# Altium integrated library WE-TPC SMD Shielded Tiny Power Inductor.IntLib: 253 symbols (part 1 of 3)
Pins are listed as number, name and electrical type; pins without a type are passive.

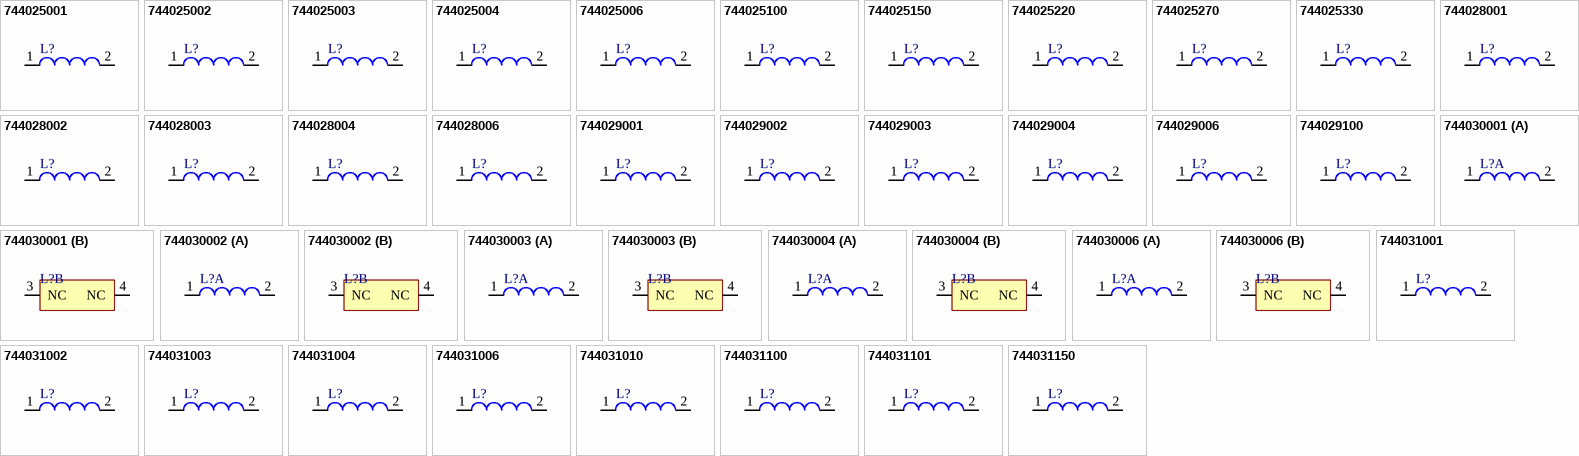
[diagram p0: symbols 744025001 to 744031150]

## 744025001
designator L?
SMD Shielded Tiny Power Inductor WE-TPC, L=1.20 µH; PartNumber: 744025001; Inductance: 1.20 µH; PackageReference: WE-TPC 2828; ComponentLink1Description: Manufacturer URL; ComponentLink1URL: http://www.we-online.com; ComponentLink2Description: Datasheet; ComponentLink2URL: http://www.we-online.de/katalog/media/pdf/744025001.pdf
footprint WE-TPC 2828 (SMD Inductor, 2-Leads, Body 2,8x2,8mm)
pins: 1, 2

## 744025002
designator L?
SMD Shielded Tiny Power Inductor WE-TPC, L=2.20 µH; PartNumber: 744025002; Inductance: 2.20 µH; PackageReference: WE-TPC 2828; ComponentLink1Description: Manufacturer URL; ComponentLink1URL: http://www.we-online.com; ComponentLink2Description: Datasheet; ComponentLink2URL: http://www.we-online.de/katalog/media/pdf/744025002.pdf
footprint WE-TPC 2828 (SMD Inductor, 2-Leads, Body 2,8x2,8mm)
pins: 1, 2

## 744025003
designator L?
SMD Shielded Tiny Power Inductor WE-TPC, L=3.30 µH; PartNumber: 744025003; Inductance: 3.30 µH; PackageReference: WE-TPC 2828; ComponentLink1Description: Manufacturer URL; ComponentLink1URL: http://www.we-online.com; ComponentLink2Description: Datasheet; ComponentLink2URL: http://www.we-online.de/katalog/media/pdf/744025003.pdf
footprint WE-TPC 2828 (SMD Inductor, 2-Leads, Body 2,8x2,8mm)
pins: 1, 2

## 744025004
designator L?
SMD Shielded Tiny Power Inductor WE-TPC, L=4.70 µH; PartNumber: 744025004; Inductance: 4.70 µH; PackageReference: WE-TPC 2828; ComponentLink1Description: Manufacturer URL; ComponentLink1URL: http://www.we-online.com; ComponentLink2Description: Datasheet; ComponentLink2URL: http://www.we-online.de/katalog/media/pdf/744025004.pdf
footprint WE-TPC 2828 (SMD Inductor, 2-Leads, Body 2,8x2,8mm)
pins: 1, 2

## 744025006
designator L?
SMD Shielded Tiny Power Inductor WE-TPC, L=6.80 µH; PartNumber: 744025006; Inductance: 6.80 µH; PackageReference: WE-TPC 2828; ComponentLink1Description: Manufacturer URL; ComponentLink1URL: http://www.we-online.com; ComponentLink2Description: Datasheet; ComponentLink2URL: http://www.we-online.de/katalog/media/pdf/744025006.pdf
footprint WE-TPC 2828 (SMD Inductor, 2-Leads, Body 2,8x2,8mm)
pins: 1, 2

## 744025100
designator L?
SMD Shielded Tiny Power Inductor WE-TPC, L=10.0 µH; PartNumber: 744025100; Inductance: 10.0 µH; PackageReference: WE-TPC 2828; ComponentLink1Description: Manufacturer URL; ComponentLink1URL: http://www.we-online.com; ComponentLink2Description: Datasheet; ComponentLink2URL: http://www.we-online.de/katalog/media/pdf/744025100.pdf
footprint WE-TPC 2828 (SMD Inductor, 2-Leads, Body 2,8x2,8mm)
pins: 1, 2

## 744025150
designator L?
SMD Shielded Tiny Power Inductor WE-TPC, L=15.0 µH; PartNumber: 744025150; Inductance: 15.0 µH; PackageReference: WE-TPC 2828; ComponentLink1Description: Manufacturer URL; ComponentLink1URL: http://www.we-online.com; ComponentLink2Description: Datasheet; ComponentLink2URL: http://www.we-online.de/katalog/media/pdf/744025150.pdf
footprint WE-TPC 2828 (SMD Inductor, 2-Leads, Body 2,8x2,8mm)
pins: 1, 2

## 744025220
designator L?
SMD Shielded Tiny Power Inductor WE-TPC, L=22.0 µH; PartNumber: 744025220; Inductance: 22.0 µH; PackageReference: WE-TPC 2828; ComponentLink1Description: Manufacturer URL; ComponentLink1URL: http://www.we-online.com; ComponentLink2Description: Datasheet; ComponentLink2URL: http://www.we-online.de/katalog/media/pdf/744025220.pdf
footprint WE-TPC 2828 (SMD Inductor, 2-Leads, Body 2,8x2,8mm)
pins: 1, 2

## 744025270
designator L?
SMD Shielded Tiny Power Inductor WE-TPC, L=27.0 µH; PartNumber: 744025270; Inductance: 27.0 µH; PackageReference: WE-TPC 2828; ComponentLink1Description: Manufacturer URL; ComponentLink1URL: http://www.we-online.com; ComponentLink2Description: Datasheet; ComponentLink2URL: http://www.we-online.de/katalog/media/pdf/744025270.pdf
footprint WE-TPC 2828 (SMD Inductor, 2-Leads, Body 2,8x2,8mm)
pins: 1, 2

## 744025330
designator L?
SMD Shielded Tiny Power Inductor WE-TPC, L=33.0 µH; PartNumber: 744025330; Inductance: 33.0 µH; PackageReference: WE-TPC 2828; ComponentLink1Description: Manufacturer URL; ComponentLink1URL: http://www.we-online.com; ComponentLink2Description: Datasheet; ComponentLink2URL: http://www.we-online.de/katalog/media/pdf/744025330.pdf
footprint WE-TPC 2828 (SMD Inductor, 2-Leads, Body 2,8x2,8mm)
pins: 1, 2

## 744028001
designator L?
SMD Shielded Tiny Power Inductor WE-TPC, L = 1.00 µH; PartNumber: 744028001; Inductance: 1.00 µH; DatasheetVersion: ver 3, Oct-2010; PackageReference: WE-TPC-2811-T; PackageDescription: SMD Inductor, 2-Leads, Body 2.8 x 2.8 mm; ComponentLink1Description: Manufacturer URL; ComponentLink1URL: http://www.we-online.com; ComponentLink2Description: Datasheet; ComponentLink2URL: http://www.we-online.de/katalog/media/pdf/744028001.pdf
footprint WE-TPC-2811-T (SMD Inductor, 2-Leads, Body 2.8x2.8x1.2 mm)
pins: 1, 2

## 744028002
designator L?
SMD Shielded Tiny Power Inductor WE-TPC, L = 2.20 µH; PartNumber: 744028002; Inductance: 2.20 µH; DatasheetVersion: ver 3, Oct-2010; PackageReference: WE-TPC-2811-T; PackageDescription: SMD Inductor, 2-Leads, Body 2.8 x 2.8 mm; ComponentLink1Description: Manufacturer URL; ComponentLink1URL: http://www.we-online.com; ComponentLink2Description: Datasheet; ComponentLink2URL: http://www.we-online.de/katalog/media/pdf/744028002.pdf
footprint WE-TPC-2811-T (SMD Inductor, 2-Leads, Body 2.8x2.8x1.2 mm)
pins: 1, 2

## 744028003
designator L?
SMD Shielded Tiny Power Inductor WE-TPC, L = 3.30 µH; PartNumber: 744028003; Inductance: 3.30 µH; DatasheetVersion: ver 3, Oct-2010; PackageReference: WE-TPC-2811-T; PackageDescription: SMD Inductor, 2-Leads, Body 2.8 x 2.8 mm; ComponentLink1Description: Manufacturer URL; ComponentLink1URL: http://www.we-online.com; ComponentLink2Description: Datasheet; ComponentLink2URL: http://www.we-online.de/katalog/media/pdf/744028003.pdf
footprint WE-TPC-2811-T (SMD Inductor, 2-Leads, Body 2.8x2.8x1.2 mm)
pins: 1, 2

## 744028004
designator L?
SMD Shielded Tiny Power Inductor WE-TPC, L = 4.70 µH; PartNumber: 744028004; Inductance: 4.70 µH; DatasheetVersion: ver 3, Oct-2010; PackageReference: WE-TPC-2811-T; PackageDescription: SMD Inductor, 2-Leads, Body 2.8 x 2.8 mm; ComponentLink1Description: Manufacturer URL; ComponentLink1URL: http://www.we-online.com; ComponentLink2Description: Datasheet; ComponentLink2URL: http://www.we-online.de/katalog/media/pdf/744028004.pdf
footprint WE-TPC-2811-T (SMD Inductor, 2-Leads, Body 2.8x2.8x1.2 mm)
pins: 1, 2

## 744028006
designator L?
SMD Shielded Tiny Power Inductor WE-TPC, L = 6.80 µH; PartNumber: 744028006; Inductance: 6.80 µH; DatasheetVersion: ver 3, Oct-2010; PackageReference: WE-TPC-2811-T; PackageDescription: SMD Inductor, 2-Leads, Body 2.8 x 2.8 mm; ComponentLink1Description: Manufacturer URL; ComponentLink1URL: http://www.we-online.com; ComponentLink2Description: Datasheet; ComponentLink2URL: http://www.we-online.de/katalog/media/pdf/744028006.pdf
footprint WE-TPC-2811-T (SMD Inductor, 2-Leads, Body 2.8x2.8x1.2 mm)
pins: 1, 2

## 744029001
designator L?
SMD Shielded Tiny Power Inductor WE-TPC, L = 1.00 µH; PartNumber: 744029001; Inductance: 1.00 µH; DatasheetVersion: ver 3, Oct-2010; PackageReference: WE-TPC-2813-TH; PackageDescription: SMD Inductor, 2-Leads, Body 2.8 x 2.8 mm; ComponentLink1Description: Manufacturer URL; ComponentLink1URL: http://www.we-online.com; ComponentLink2Description: Datasheet; ComponentLink2URL: http://www.we-online.de/katalog/media/pdf/744029001.pdf
footprint WE-TPC-2813-TH (SMD Inductor, 2-Leads, Body 2.8x2.8x1.5 mm)
pins: 1, 2

## 744029002
designator L?
SMD Shielded Tiny Power Inductor WE-TPC, L = 2.20 µH; PartNumber: 744029002; Inductance: 2.20 µH; DatasheetVersion: ver 3, Oct-2010; PackageReference: WE-TPC-2813-TH; PackageDescription: SMD Inductor, 2-Leads, Body 2.8 x 2.8 mm; ComponentLink1Description: Manufacturer URL; ComponentLink1URL: http://www.we-online.com; ComponentLink2Description: Datasheet; ComponentLink2URL: http://www.we-online.de/katalog/media/pdf/744029002.pdf
footprint WE-TPC-2813-TH (SMD Inductor, 2-Leads, Body 2.8x2.8x1.5 mm)
pins: 1, 2

## 744029003
designator L?
SMD Shielded Tiny Power Inductor WE-TPC, L = 3.30 µH; PartNumber: 744029003; Inductance: 3.30 µH; DatasheetVersion: ver 3, Oct-2010; PackageReference: WE-TPC-2813-TH; PackageDescription: SMD Inductor, 2-Leads, Body 2.8 x 2.8 mm; ComponentLink1Description: Manufacturer URL; ComponentLink1URL: http://www.we-online.com; ComponentLink2Description: Datasheet; ComponentLink2URL: http://www.we-online.de/katalog/media/pdf/744029003.pdf
footprint WE-TPC-2813-TH (SMD Inductor, 2-Leads, Body 2.8x2.8x1.5 mm)
pins: 1, 2

## 744029004
designator L?
SMD Shielded Tiny Power Inductor WE-TPC, L = 4.70 µH; PartNumber: 744029004; Inductance: 4.70 µH; DatasheetVersion: ver 3, Oct-2010; PackageReference: WE-TPC-2813-TH; PackageDescription: SMD Inductor, 2-Leads, Body 2.8 x 2.8 mm; ComponentLink1Description: Manufacturer URL; ComponentLink1URL: http://www.we-online.com; ComponentLink2Description: Datasheet; ComponentLink2URL: http://www.we-online.de/katalog/media/pdf/744029004.pdf
footprint WE-TPC-2813-TH (SMD Inductor, 2-Leads, Body 2.8x2.8x1.5 mm)
pins: 1, 2

## 744029006
designator L?
SMD Shielded Tiny Power Inductor WE-TPC, L = 6.80 µH; PartNumber: 744029006; Inductance: 6.80 µH; DatasheetVersion: ver 3, Oct-2010; PackageReference: WE-TPC-2813-TH; PackageDescription: SMD Inductor, 2-Leads, Body 2.8 x 2.8 mm; ComponentLink1Description: Manufacturer URL; ComponentLink1URL: http://www.we-online.com; ComponentLink2Description: Datasheet; ComponentLink2URL: http://www.we-online.de/katalog/media/pdf/744029006.pdf
footprint WE-TPC-2813-TH (SMD Inductor, 2-Leads, Body 2.8x2.8x1.5 mm)
pins: 1, 2

## 744029100
designator L?
SMD Shielded Tiny Power Inductor WE-TPC, L = 10.0 µH; PartNumber: 744029100; Inductance: 10.0 µH; DatasheetVersion: ver 3, Oct-2010; PackageReference: WE-TPC-2813-TH; PackageDescription: SMD Inductor, 2-Leads, Body 2.8 x 2.8 mm; ComponentLink1Description: Manufacturer URL; ComponentLink1URL: http://www.we-online.com; ComponentLink2Description: Datasheet; ComponentLink2URL: http://www.we-online.de/katalog/media/pdf/744029100.pdf
footprint WE-TPC-2813-TH (SMD Inductor, 2-Leads, Body 2.8x2.8x1.5 mm)
pins: 1, 2

## 744030001
designator L?
SMD Shielded Tiny Power Inductor WE-TPC, L = 1.20 µH; PartNumber: 744030001; Inductance: 1.20 µH; DatasheetVersion: ver 6, Jun-2009; PackageReference: WE-TPC-3510-XS; PackageDescription: SMD Inductor, 2-Leads, Body 3.3 x 3.5 mm; ComponentLink1Description: Manufacturer URL; ComponentLink1URL: http://www.we-online.com; ComponentLink2Description: Datasheet; ComponentLink2URL: http://www.we-online.de/katalog/media/pdf/744030001.pdf
footprint WE-TPC-3510-XS (SMD Inductor, 2-Leads, Body 3.3x3.5x1.05 mm)
part A pins: 1, 2
part B pins: 3 NC, 4 NC

## 744030002
designator L?
SMD Shielded Tiny Power Inductor WE-TPC, L = 2.20 µH; PartNumber: 744030002; Inductance: 2.20 µH; DatasheetVersion: ver 6, Jun-2009; PackageReference: WE-TPC-3510-XS; PackageDescription: SMD Inductor, 2-Leads, Body 3.3 x 3.5 mm; ComponentLink1Description: Manufacturer URL; ComponentLink1URL: http://www.we-online.com; ComponentLink2Description: Datasheet; ComponentLink2URL: http://www.we-online.de/katalog/media/pdf/744030002.pdf
footprint WE-TPC-3510-XS (SMD Inductor, 2-Leads, Body 3.3x3.5x1.05 mm)
part A pins: 1, 2
part B pins: 3 NC, 4 NC

## 744030003
designator L?
SMD Shielded Tiny Power Inductor WE-TPC, L = 3.30 µH; PartNumber: 744030003; Inductance: 3.30 µH; DatasheetVersion: ver 6, Jun-2009; PackageReference: WE-TPC-3510-XS; PackageDescription: SMD Inductor, 2-Leads, Body 3.3 x 3.5 mm; ComponentLink1Description: Manufacturer URL; ComponentLink1URL: http://www.we-online.com; ComponentLink2Description: Datasheet; ComponentLink2URL: http://www.we-online.de/katalog/media/pdf/744030003.pdf
footprint WE-TPC-3510-XS (SMD Inductor, 2-Leads, Body 3.3x3.5x1.05 mm)
part A pins: 1, 2
part B pins: 3 NC, 4 NC

## 744030004
designator L?
SMD Shielded Tiny Power Inductor WE-TPC, L = 4.70 µH; PartNumber: 744030004; Inductance: 4.70 µH; DatasheetVersion: ver 6, Jun-2009; PackageReference: WE-TPC-3510-XS; PackageDescription: SMD Inductor, 2-Leads, Body 3.3 x 3.5 mm; ComponentLink1Description: Manufacturer URL; ComponentLink1URL: http://www.we-online.com; ComponentLink2Description: Datasheet; ComponentLink2URL: http://www.we-online.de/katalog/media/pdf/744030004.pdf
footprint WE-TPC-3510-XS (SMD Inductor, 2-Leads, Body 3.3x3.5x1.05 mm)
part A pins: 1, 2
part B pins: 3 NC, 4 NC

## 744030006
designator L?
SMD Shielded Tiny Power Inductor WE-TPC, L = 6.80 µH; PartNumber: 744030006; Inductance: 6.80 µH; DatasheetVersion: ver 6, Jun-2009; PackageReference: WE-TPC-3510-XS; PackageDescription: SMD Inductor, 2-Leads, Body 3.3 x 3.5 mm; ComponentLink1Description: Manufacturer URL; ComponentLink1URL: http://www.we-online.com; ComponentLink2Description: Datasheet; ComponentLink2URL: http://www.we-online.de/katalog/media/pdf/744030006.pdf
footprint WE-TPC-3510-XS (SMD Inductor, 2-Leads, Body 3.3x3.5x1.05 mm)
part A pins: 1, 2
part B pins: 3 NC, 4 NC

## 744031001
designator L?
SMD Shielded Tiny Power Inductor WE-TPC, L = 1.50 µH; PartNumber: 744031001; Inductance: 1.50 µH; DatasheetVersion: ver 6, Jan-2009; PackageReference: WE-TPC-3816-S; PackageDescription: SMD Inductor, 2-Leads, Body 3.8 x 3.8 mm; ComponentLink1Description: Manufacturer URL; ComponentLink1URL: http://www.we-online.com; ComponentLink2Description: Datasheet; ComponentLink2URL: http://www.we-online.de/katalog/media/pdf/744031001.pdf
footprint WE-TPC-3816-S (SMD Inductor, 2-Leads, Body 3.8x3.8x1.8 mm)
pins: 1, 2

## 744031002
designator L?
SMD Shielded Tiny Power Inductor WE-TPC, L = 2.50 µH; PartNumber: 744031002; Inductance: 2.50 µH; DatasheetVersion: ver 6, Jan-2009; PackageReference: WE-TPC-3816-S; PackageDescription: SMD Inductor, 2-Leads, Body 3.8 x 3.8 mm; ComponentLink1Description: Manufacturer URL; ComponentLink1URL: http://www.we-online.com; ComponentLink2Description: Datasheet; ComponentLink2URL: http://www.we-online.de/katalog/media/pdf/744031002.pdf
footprint WE-TPC-3816-S (SMD Inductor, 2-Leads, Body 3.8x3.8x1.8 mm)
pins: 1, 2

## 744031003
designator L?
SMD Shielded Tiny Power Inductor WE-TPC, L = 3.60 µH; PartNumber: 744031003; Inductance: 3.60 µH; DatasheetVersion: ver 6, Jan-2009; PackageReference: WE-TPC-3816-S; PackageDescription: SMD Inductor, 2-Leads, Body 3.8 x 3.8 mm; ComponentLink1Description: Manufacturer URL; ComponentLink1URL: http://www.we-online.com; ComponentLink2Description: Datasheet; ComponentLink2URL: http://www.we-online.de/katalog/media/pdf/744031003.pdf
footprint WE-TPC-3816-S (SMD Inductor, 2-Leads, Body 3.8x3.8x1.8 mm)
pins: 1, 2

## 744031004
designator L?
SMD Shielded Tiny Power Inductor WE-TPC, L = 4.70 µH; PartNumber: 744031004; Inductance: 4.70 µH; DatasheetVersion: ver 6, Jan-2009; PackageReference: WE-TPC-3816-S; PackageDescription: SMD Inductor, 2-Leads, Body 3.8 x 3.8 mm; ComponentLink1Description: Manufacturer URL; ComponentLink1URL: http://www.we-online.com; ComponentLink2Description: Datasheet; ComponentLink2URL: http://www.we-online.de/katalog/media/pdf/744031004.pdf
footprint WE-TPC-3816-S (SMD Inductor, 2-Leads, Body 3.8x3.8x1.8 mm)
pins: 1, 2

## 744031006
designator L?
SMD Shielded Tiny Power Inductor WE-TPC, L = 6.80 µH; PartNumber: 744031006; Inductance: 6.80 µH; DatasheetVersion: ver 6, Jan-2009; PackageReference: WE-TPC-3816-S; PackageDescription: SMD Inductor, 2-Leads, Body 3.8 x 3.8 mm; ComponentLink1Description: Manufacturer URL; ComponentLink1URL: http://www.we-online.com; ComponentLink2Description: Datasheet; ComponentLink2URL: http://www.we-online.de/katalog/media/pdf/744031006.pdf
footprint WE-TPC-3816-S (SMD Inductor, 2-Leads, Body 3.8x3.8x1.8 mm)
pins: 1, 2

## 744031010
designator L?
SMD Shielded Tiny Power Inductor WE-TPC, L=1.00 µH; PartNumber: 744031010; Inductance: 1.00 µH; PackageReference: WE-TPC-3816-S; PackageDescription: SMD Inductor, 2-Leads, Body 3.8 x 3.8 mm; ComponentLink1Description: Manufacturer URL; ComponentLink1URL: http://www.we-online.com; ComponentLink2Description: Datasheet; ComponentLink2URL: http://www.we-online.de/katalog/media/pdf/744031010.pdf
footprint WE-TPC-3816-S (SMD Inductor, 2-Leads, Body 3.8x3.8x1.8 mm)
pins: 1, 2

## 744031100
designator L?
SMD Shielded Tiny Power Inductor WE-TPC, L = 10.0 µH; PartNumber: 744031100; Inductance: 10.0 µH; DatasheetVersion: ver 6, Jan-2009; PackageReference: WE-TPC-3816-S; PackageDescription: SMD Inductor, 2-Leads, Body 3.8 x 3.8 mm; ComponentLink1Description: Manufacturer URL; ComponentLink1URL: http://www.we-online.com; ComponentLink2Description: Datasheet; ComponentLink2URL: http://www.we-online.de/katalog/media/pdf/744031100.pdf
footprint WE-TPC-3816-S (SMD Inductor, 2-Leads, Body 3.8x3.8x1.8 mm)
pins: 1, 2

## 744031101
designator L?
SMD Shielded Tiny Power Inductor WE-TPC, L = 100 µH; PartNumber: 744031101; Inductance: 100 µH; DatasheetVersion: ver 6, Jan-2009; PackageReference: WE-TPC-3816-S; PackageDescription: SMD Inductor, 2-Leads, Body 3.8 x 3.8 mm; ComponentLink1Description: Manufacturer URL; ComponentLink1URL: http://www.we-online.com; ComponentLink2Description: Datasheet; ComponentLink2URL: http://www.we-online.de/katalog/media/pdf/744031101.pdf
footprint WE-TPC-3816-S (SMD Inductor, 2-Leads, Body 3.8x3.8x1.8 mm)
pins: 1, 2

## 744031150
designator L?
SMD Shielded Tiny Power Inductor WE-TPC, L = 15.0 µH; PartNumber: 744031150; Inductance: 15.0 µH; DatasheetVersion: ver 6, Jan-2009; PackageReference: WE-TPC-3816-S; PackageDescription: SMD Inductor, 2-Leads, Body 3.8 x 3.8 mm; ComponentLink1Description: Manufacturer URL; ComponentLink1URL: http://www.we-online.com; ComponentLink2Description: Datasheet; ComponentLink2URL: http://www.we-online.de/katalog/media/pdf/744031150.pdf
footprint WE-TPC-3816-S (SMD Inductor, 2-Leads, Body 3.8x3.8x1.8 mm)
pins: 1, 2

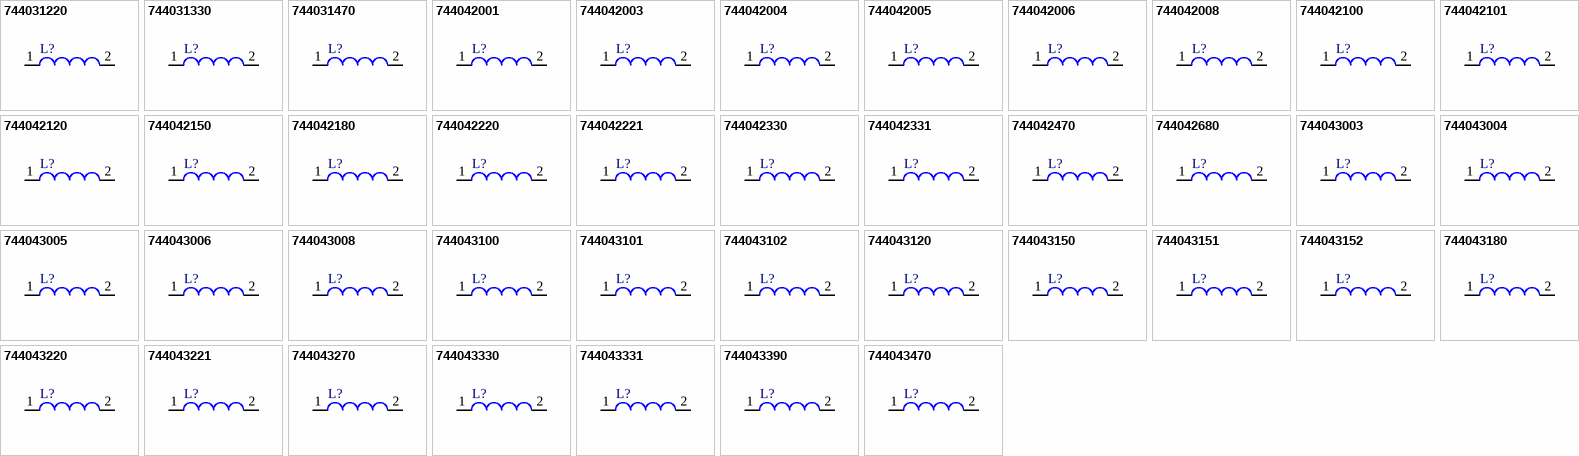
[diagram p1: symbols 744031220 to 744043470]

## 744031220
designator L?
SMD Shielded Tiny Power Inductor WE-TPC, L = 22.0 µH; PartNumber: 744031220; Inductance: 22.0 µH; DatasheetVersion: ver 6, Jan-2009; PackageReference: WE-TPC-3816-S; PackageDescription: SMD Inductor, 2-Leads, Body 3.8 x 3.8 mm; ComponentLink1Description: Manufacturer URL; ComponentLink1URL: http://www.we-online.com; ComponentLink2Description: Datasheet; ComponentLink2URL: http://www.we-online.de/katalog/media/pdf/744031220.pdf
footprint WE-TPC-3816-S (SMD Inductor, 2-Leads, Body 3.8x3.8x1.8 mm)
pins: 1, 2

## 744031330
designator L?
SMD Shielded Tiny Power Inductor WE-TPC, L = 33.0 µH; PartNumber: 744031330; Inductance: 33.0 µH; DatasheetVersion: ver 6, Jan-2009; PackageReference: WE-TPC-3816-S; PackageDescription: SMD Inductor, 2-Leads, Body 3.8 x 3.8 mm; ComponentLink1Description: Manufacturer URL; ComponentLink1URL: http://www.we-online.com; ComponentLink2Description: Datasheet; ComponentLink2URL: http://www.we-online.de/katalog/media/pdf/744031330.pdf
footprint WE-TPC-3816-S (SMD Inductor, 2-Leads, Body 3.8x3.8x1.8 mm)
pins: 1, 2

## 744031470
designator L?
SMD Shielded Tiny Power Inductor WE-TPC, L = 47.0 µH; PartNumber: 744031470; Inductance: 47.0 µH; DatasheetVersion: ver 6, Jan-2009; PackageReference: WE-TPC-3816-S; PackageDescription: SMD Inductor, 2-Leads, Body 3.8 x 3.8 mm; ComponentLink1Description: Manufacturer URL; ComponentLink1URL: http://www.we-online.com; ComponentLink2Description: Datasheet; ComponentLink2URL: http://www.we-online.de/katalog/media/pdf/744031470.pdf
footprint WE-TPC-3816-S (SMD Inductor, 2-Leads, Body 3.8x3.8x1.8 mm)
pins: 1, 2

## 744042001
designator L?
SMD Shielded Tiny Power Inductor WE-TPC, L = 1.00 µH; PartNumber: 744042001; Inductance: 1.00 µH; DatasheetVersion: ver 6, Aug-2010; PackageReference: WE-TPC-4818-M; PackageDescription: SMD Inductor, 2-Leads, Body 4.8 x 4.8 mm; ComponentLink1Description: Manufacturer URL; ComponentLink1URL: http://www.we-online.com; ComponentLink2Description: Datasheet; ComponentLink2URL: http://www.we-online.de/katalog/media/pdf/744042001.pdf
footprint WE-TPC-4818-M (SMD Inductor, 2-Leads, Body 4.8x4.8x2.0 mm)
pins: 1, 2

## 744042003
designator L?
SMD Shielded Tiny Power Inductor WE-TPC, L = 3.30 µH; PartNumber: 744042003; Inductance: 3.30 µH; DatasheetVersion: ver 6, Aug-2010; PackageReference: WE-TPC-4818-M; PackageDescription: SMD Inductor, 2-Leads, Body 4.8 x 4.8 mm; ComponentLink1Description: Manufacturer URL; ComponentLink1URL: http://www.we-online.com; ComponentLink2Description: Datasheet; ComponentLink2URL: http://www.we-online.de/katalog/media/pdf/744042003.pdf
footprint WE-TPC-4818-M (SMD Inductor, 2-Leads, Body 4.8x4.8x2.0 mm)
pins: 1, 2

## 744042004
designator L?
SMD Shielded Tiny Power Inductor WE-TPC, L = 4.70 µH; PartNumber: 744042004; Inductance: 4.70 µH; DatasheetVersion: ver 6, Aug-2010; PackageReference: WE-TPC-4818-M; PackageDescription: SMD Inductor, 2-Leads, Body 4.8 x 4.8 mm; ComponentLink1Description: Manufacturer URL; ComponentLink1URL: http://www.we-online.com; ComponentLink2Description: Datasheet; ComponentLink2URL: http://www.we-online.de/katalog/media/pdf/744042004.pdf
footprint WE-TPC-4818-M (SMD Inductor, 2-Leads, Body 4.8x4.8x2.0 mm)
pins: 1, 2

## 744042005
designator L?
SMD Shielded Tiny Power Inductor WE-TPC, L = 5.60 µH; PartNumber: 744042005; Inductance: 5.60 µH; DatasheetVersion: ver 6, Aug-2010; PackageReference: WE-TPC-4818-M; PackageDescription: SMD Inductor, 2-Leads, Body 4.8 x 4.8 mm; ComponentLink1Description: Manufacturer URL; ComponentLink1URL: http://www.we-online.com; ComponentLink2Description: Datasheet; ComponentLink2URL: http://www.we-online.de/katalog/media/pdf/744042005.pdf
footprint WE-TPC-4818-M (SMD Inductor, 2-Leads, Body 4.8x4.8x2.0 mm)
pins: 1, 2

## 744042006
designator L?
SMD Shielded Tiny Power Inductor WE-TPC, L = 6.80 µH; PartNumber: 744042006; Inductance: 6.80 µH; DatasheetVersion: ver 6, Aug-2010; PackageReference: WE-TPC-4818-M; PackageDescription: SMD Inductor, 2-Leads, Body 4.8 x 4.8 mm; ComponentLink1Description: Manufacturer URL; ComponentLink1URL: http://www.we-online.com; ComponentLink2Description: Datasheet; ComponentLink2URL: http://www.we-online.de/katalog/media/pdf/744042006.pdf
footprint WE-TPC-4818-M (SMD Inductor, 2-Leads, Body 4.8x4.8x2.0 mm)
pins: 1, 2

## 744042008
designator L?
SMD Shielded Tiny Power Inductor WE-TPC, L = 8.20 µH; PartNumber: 744042008; Inductance: 8.20 µH; DatasheetVersion: ver 6, Aug-2010; PackageReference: WE-TPC-4818-M; PackageDescription: SMD Inductor, 2-Leads, Body 4.8 x 4.8 mm; ComponentLink1Description: Manufacturer URL; ComponentLink1URL: http://www.we-online.com; ComponentLink2Description: Datasheet; ComponentLink2URL: http://www.we-online.de/katalog/media/pdf/744042008.pdf
footprint WE-TPC-4818-M (SMD Inductor, 2-Leads, Body 4.8x4.8x2.0 mm)
pins: 1, 2

## 744042100
designator L?
SMD Shielded Tiny Power Inductor WE-TPC, L = 10.0 µH; PartNumber: 744042100; Inductance: 10.0 µH; DatasheetVersion: ver 6, Aug-2010; PackageReference: WE-TPC-4818-M; PackageDescription: SMD Inductor, 2-Leads, Body 4.8 x 4.8 mm; ComponentLink1Description: Manufacturer URL; ComponentLink1URL: http://www.we-online.com; ComponentLink2Description: Datasheet; ComponentLink2URL: http://www.we-online.de/katalog/media/pdf/744042100.pdf
footprint WE-TPC-4818-M (SMD Inductor, 2-Leads, Body 4.8x4.8x2.0 mm)
pins: 1, 2

## 744042101
designator L?
SMD Shielded Tiny Power Inductor WE-TPC, L = 100 µH; PartNumber: 744042101; Inductance: 100 µH; DatasheetVersion: ver 6, Aug-2010; PackageReference: WE-TPC-4818-M; PackageDescription: SMD Inductor, 2-Leads, Body 4.8 x 4.8 mm; ComponentLink1Description: Manufacturer URL; ComponentLink1URL: http://www.we-online.com; ComponentLink2Description: Datasheet; ComponentLink2URL: http://www.we-online.de/katalog/media/pdf/744042101.pdf
footprint WE-TPC-4818-M (SMD Inductor, 2-Leads, Body 4.8x4.8x2.0 mm)
pins: 1, 2

## 744042120
designator L?
SMD Shielded Tiny Power Inductor WE-TPC, L = 12.0 µH; PartNumber: 744042120; Inductance: 12.0 µH; DatasheetVersion: ver 6, Aug-2010; PackageReference: WE-TPC-4818-M; PackageDescription: SMD Inductor, 2-Leads, Body 4.8 x 4.8 mm; ComponentLink1Description: Manufacturer URL; ComponentLink1URL: http://www.we-online.com; ComponentLink2Description: Datasheet; ComponentLink2URL: http://www.we-online.de/katalog/media/pdf/744042120.pdf
footprint WE-TPC-4818-M (SMD Inductor, 2-Leads, Body 4.8x4.8x2.0 mm)
pins: 1, 2

## 744042150
designator L?
SMD Shielded Tiny Power Inductor WE-TPC, L = 15.0 µH; PartNumber: 744042150; Inductance: 15.0 µH; DatasheetVersion: ver 6, Aug-2010; PackageReference: WE-TPC-4818-M; PackageDescription: SMD Inductor, 2-Leads, Body 4.8 x 4.8 mm; ComponentLink1Description: Manufacturer URL; ComponentLink1URL: http://www.we-online.com; ComponentLink2Description: Datasheet; ComponentLink2URL: http://www.we-online.de/katalog/media/pdf/744042150.pdf
footprint WE-TPC-4818-M (SMD Inductor, 2-Leads, Body 4.8x4.8x2.0 mm)
pins: 1, 2

## 744042180
designator L?
SMD Shielded Tiny Power Inductor WE-TPC, L = 18.0 µH; PartNumber: 744042180; Inductance: 18.0 µH; DatasheetVersion: ver 6, Aug-2010; PackageReference: WE-TPC-4818-M; PackageDescription: SMD Inductor, 2-Leads, Body 4.8 x 4.8 mm; ComponentLink1Description: Manufacturer URL; ComponentLink1URL: http://www.we-online.com; ComponentLink2Description: Datasheet; ComponentLink2URL: http://www.we-online.de/katalog/media/pdf/744042180.pdf
footprint WE-TPC-4818-M (SMD Inductor, 2-Leads, Body 4.8x4.8x2.0 mm)
pins: 1, 2

## 744042220
designator L?
SMD Shielded Tiny Power Inductor WE-TPC, L = 22.0 µH; PartNumber: 744042220; Inductance: 22.0 µH; DatasheetVersion: ver 6, Aug-2010; PackageReference: WE-TPC-4818-M; PackageDescription: SMD Inductor, 2-Leads, Body 4.8 x 4.8 mm; ComponentLink1Description: Manufacturer URL; ComponentLink1URL: http://www.we-online.com; ComponentLink2Description: Datasheet; ComponentLink2URL: http://www.we-online.de/katalog/media/pdf/744042220.pdf
footprint WE-TPC-4818-M (SMD Inductor, 2-Leads, Body 4.8x4.8x2.0 mm)
pins: 1, 2

## 744042221
designator L?
SMD Shielded Tiny Power Inductor WE-TPC, L=220 µH; PartNumber: 744042221; Inductance: 220 µH; PackageReference: WE-TPC-4818-M; PackageDescription: SMD Inductor, 2-Leads, Body 4.8 x 4.8 mm; ComponentLink1Description: Manufacturer URL; ComponentLink1URL: http://www.we-online.com; ComponentLink2Description: Datasheet; ComponentLink2URL: http://www.we-online.de/katalog/media/pdf/744042221.pdf
footprint WE-TPC-4818-M (SMD Inductor, 2-Leads, Body 4.8x4.8x2.0 mm)
pins: 1, 2

## 744042330
designator L?
SMD Shielded Tiny Power Inductor WE-TPC, L = 33.0 µH; PartNumber: 744042330; Inductance: 33.0 µH; DatasheetVersion: ver 6, Aug-2010; PackageReference: WE-TPC-4818-M; PackageDescription: SMD Inductor, 2-Leads, Body 4.8 x 4.8 mm; ComponentLink1Description: Manufacturer URL; ComponentLink1URL: http://www.we-online.com; ComponentLink2Description: Datasheet; ComponentLink2URL: http://www.we-online.de/katalog/media/pdf/744042330.pdf
footprint WE-TPC-4818-M (SMD Inductor, 2-Leads, Body 4.8x4.8x2.0 mm)
pins: 1, 2

## 744042331
designator L?
SMD Shielded Tiny Power Inductor WE-TPC, L=330 µH; PartNumber: 744042331; Inductance: 330 µH; PackageReference: WE-TPC-4818-M; PackageDescription: SMD Inductor, 2-Leads, Body 4.8 x 4.8 mm; ComponentLink1Description: Manufacturer URL; ComponentLink1URL: http://www.we-online.com; ComponentLink2Description: Datasheet; ComponentLink2URL: http://www.we-online.de/katalog/media/pdf/744042331.pdf
footprint WE-TPC-4818-M (SMD Inductor, 2-Leads, Body 4.8x4.8x2.0 mm)
pins: 1, 2

## 744042470
designator L?
SMD Shielded Tiny Power Inductor WE-TPC, L=47.0 µH; PartNumber: 744042470; Inductance: 47.0 µH; PackageReference: WE-TPC-4818-M; PackageDescription: SMD Inductor, 2-Leads, Body 4.8 x 4.8 mm; ComponentLink1Description: Manufacturer URL; ComponentLink1URL: http://www.we-online.com; ComponentLink2Description: Datasheet; ComponentLink2URL: http://www.we-online.de/katalog/media/pdf/744042470.pdf
footprint WE-TPC-4818-M (SMD Inductor, 2-Leads, Body 4.8x4.8x2.0 mm)
pins: 1, 2

## 744042680
designator L?
SMD Shielded Tiny Power Inductor WE-TPC, L=68.0 µH; PartNumber: 744042680; Inductance: 68.0 µH; PackageReference: WE-TPC-4818-M; PackageDescription: SMD Inductor, 2-Leads, Body 4.8 x 4.8 mm; ComponentLink1Description: Manufacturer URL; ComponentLink1URL: http://www.we-online.com; ComponentLink2Description: Datasheet; ComponentLink2URL: http://www.we-online.de/katalog/media/pdf/744042680.pdf
footprint WE-TPC-4818-M (SMD Inductor, 2-Leads, Body 4.8x4.8x2.0 mm)
pins: 1, 2

## 744043003
designator L?
SMD Shielded Tiny Power Inductor WE-TPC, L = 3.30µH; PartNumber: 744043003; DatasheetVersion: ver 6, Aug-2010; PackageReference: WE-TPC-4828-MH; PackageDescription: SMD Inductor, 2-Leads, Body 4.8 x 4.8 mm; Inductance: 3.30 µH; ComponentLink1Description: Manufacturer URL; ComponentLink1URL: http://www.we-online.com; ComponentLink2Description: Datasheet; ComponentLink2URL: http://www.we-online.de/katalog/media/pdf/744043003.pdf
footprint WE-TPC-4828-MH (SMD Inductor, 2-Leads, Body 4.8x4.8x3.0 mm)
pins: 1, 2

## 744043004
designator L?
SMD Shielded Tiny Power Inductor WE-TPC, L = 4.70 µH; PartNumber: 744043004; Inductance: 4.70 µH; DatasheetVersion: ver 6, Aug-2010; PackageReference: WE-TPC-4828-MH; PackageDescription: SMD Inductor, 2-Leads, Body 4.8 x 4.8 mm; ComponentLink1Description: Manufacturer URL; ComponentLink1URL: http://www.we-online.com; ComponentLink2Description: Datasheet; ComponentLink2URL: http://www.we-online.de/katalog/media/pdf/744043004.pdf
footprint WE-TPC-4828-MH (SMD Inductor, 2-Leads, Body 4.8x4.8x3.0 mm)
pins: 1, 2

## 744043005
designator L?
SMD Shielded Tiny Power Inductor WE-TPC, L = 5.60 µH; PartNumber: 744043005; Inductance: 5.60 µH; DatasheetVersion: ver 6, Aug-2010; PackageReference: WE-TPC-4828-MH; PackageDescription: SMD Inductor, 2-Leads, Body 4.8 x 4.8 mm; ComponentLink1Description: Manufacturer URL; ComponentLink1URL: http://www.we-online.com; ComponentLink2Description: Datasheet; ComponentLink2URL: http://www.we-online.de/katalog/media/pdf/744043005.pdf
footprint WE-TPC-4828-MH (SMD Inductor, 2-Leads, Body 4.8x4.8x3.0 mm)
pins: 1, 2

## 744043006
designator L?
SMD Shielded Tiny Power Inductor WE-TPC, L = 6.80 µH; PartNumber: 744043006; Inductance: 6.80 µH; DatasheetVersion: ver 6, Aug-2010; PackageReference: WE-TPC-4828-MH; PackageDescription: SMD Inductor, 2-Leads, Body 4.8 x 4.8 mm; ComponentLink1Description: Manufacturer URL; ComponentLink1URL: http://www.we-online.com; ComponentLink2Description: Datasheet; ComponentLink2URL: http://www.we-online.de/katalog/media/pdf/744043006.pdf
footprint WE-TPC-4828-MH (SMD Inductor, 2-Leads, Body 4.8x4.8x3.0 mm)
pins: 1, 2

## 744043008
designator L?
SMD Shielded Tiny Power Inductor WE-TPC, L = 8.20 µH; PartNumber: 744043008; Inductance: 8.20 µH; DatasheetVersion: ver 6, Aug-2010; PackageReference: WE-TPC-4828-MH; PackageDescription: SMD Inductor, 2-Leads, Body 4.8 x 4.8 mm; ComponentLink1Description: Manufacturer URL; ComponentLink1URL: http://www.we-online.com; ComponentLink2Description: Datasheet; ComponentLink2URL: http://www.we-online.de/katalog/media/pdf/744043008.pdf
footprint WE-TPC-4828-MH (SMD Inductor, 2-Leads, Body 4.8x4.8x3.0 mm)
pins: 1, 2

## 744043100
designator L?
SMD Shielded Tiny Power Inductor WE-TPC, L = 10.0 µH; PartNumber: 744043100; Inductance: 10.0 µH; DatasheetVersion: ver 6, Aug-2010; PackageReference: WE-TPC-4828-MH; PackageDescription: SMD Inductor, 2-Leads, Body 4.8 x 4.8 mm; ComponentLink1Description: Manufacturer URL; ComponentLink1URL: http://www.we-online.com; ComponentLink2Description: Datasheet; ComponentLink2URL: http://www.we-online.de/katalog/media/pdf/744043100.pdf
footprint WE-TPC-4828-MH (SMD Inductor, 2-Leads, Body 4.8x4.8x3.0 mm)
pins: 1, 2

## 744043101
designator L?
SMD Shielded Tiny Power Inductor WE-TPC, L = 100 µH; PartNumber: 744043101; Inductance: 100 µH; DatasheetVersion: ver 6, Aug-2010; PackageReference: WE-TPC-4828-MH; PackageDescription: SMD Inductor, 2-Leads, Body 4.8 x 4.8 mm; ComponentLink1Description: Manufacturer URL; ComponentLink1URL: http://www.we-online.com; ComponentLink2Description: Datasheet; ComponentLink2URL: http://www.we-online.de/katalog/media/pdf/744043101.pdf
footprint WE-TPC-4828-MH (SMD Inductor, 2-Leads, Body 4.8x4.8x3.0 mm)
pins: 1, 2

## 744043102
designator L?
SMD Shielded Tiny Power Inductor WE-TPC, L=1000 µH; PartNumber: 744043102; Inductance: 1000 µH; PackageReference: WE-TPC-4828-MH; PackageDescription: SMD Inductor, 2-Leads, Body 4.8 x 4.8 mm; ComponentLink1Description: Manufacturer URL; ComponentLink1URL: http://www.we-online.com; ComponentLink2Description: Datasheet; ComponentLink2URL: http://katalog.we-online.de/pbs/datasheet/744043102.pdf
footprint WE-TPC-4828-MH (SMD Inductor, 2-Leads, Body 4.8x4.8x3.0 mm)
pins: 1, 2

## 744043120
designator L?
SMD Shielded Tiny Power Inductor WE-TPC, L = 12.0 µH; PartNumber: 744043120; Inductance: 12.0 µH; DatasheetVersion: ver 6, Aug-2010; PackageReference: WE-TPC-4828-MH; PackageDescription: SMD Inductor, 2-Leads, Body 4.8 x 4.8 mm; ComponentLink1Description: Manufacturer URL; ComponentLink1URL: http://www.we-online.com; ComponentLink2Description: Datasheet; ComponentLink2URL: http://www.we-online.de/katalog/media/pdf/744043120.pdf
footprint WE-TPC-4828-MH (SMD Inductor, 2-Leads, Body 4.8x4.8x3.0 mm)
pins: 1, 2

## 744043150
designator L?
SMD Shielded Tiny Power Inductor WE-TPC, L = 15.0 µH; PartNumber: 744043150; Inductance: 15.0 µH; DatasheetVersion: ver 6, Aug-2010; PackageReference: WE-TPC-4828-MH; PackageDescription: SMD Inductor, 2-Leads, Body 4.8 x 4.8 mm; ComponentLink1Description: Manufacturer URL; ComponentLink1URL: http://www.we-online.com; ComponentLink2Description: Datasheet; ComponentLink2URL: http://www.we-online.de/katalog/media/pdf/744043150.pdf
footprint WE-TPC-4828-MH (SMD Inductor, 2-Leads, Body 4.8x4.8x3.0 mm)
pins: 1, 2

## 744043151
designator L?
SMD Shielded Tiny Power Inductor WE-TPC, L = 150 µH; PartNumber: 744043151; Inductance: 150 µH; DatasheetVersion: ver 6, Aug-2010; PackageReference: WE-TPC-4828-MH; PackageDescription: SMD Inductor, 2-Leads, Body 4.8 x 4.8 mm; ComponentLink1Description: Manufacturer URL; ComponentLink1URL: http://www.we-online.com; ComponentLink2Description: Datasheet; ComponentLink2URL: http://www.we-online.de/katalog/media/pdf/744043151.pdf
footprint WE-TPC-4828-MH (SMD Inductor, 2-Leads, Body 4.8x4.8x3.0 mm)
pins: 1, 2

## 744043152
designator L?
SMD Shielded Tiny Power Inductor WE-TPC, L = 1500 µH; PartNumber: 744043152; Inductance: 1500 µH; DatasheetVersion: ver 6, Aug-2010; PackageReference: WE-TPC-4828-MH; PackageDescription: SMD Inductor, 2-Leads, Body 4.8 x 4.8 mm; ComponentLink1Description: Manufacturer URL; ComponentLink1URL: http://www.we-online.com; ComponentLink2Description: Datasheet; ComponentLink2URL: http://www.we-online.de/katalog/media/pdf/744043152.pdf
footprint WE-TPC-4828-MH (SMD Inductor, 2-Leads, Body 4.8x4.8x3.0 mm)
pins: 1, 2

## 744043180
designator L?
SMD Shielded Tiny Power Inductor WE-TPC, L = 18.0 µH; PartNumber: 744043180; Inductance: 18.0 µH; DatasheetVersion: ver 6, Aug-2010; PackageReference: WE-TPC-4828-MH; PackageDescription: SMD Inductor, 2-Leads, Body 4.8 x 4.8 mm; ComponentLink1Description: Manufacturer URL; ComponentLink1URL: http://www.we-online.com; ComponentLink2Description: Datasheet; ComponentLink2URL: http://www.we-online.de/katalog/media/pdf/744043180.pdf
footprint WE-TPC-4828-MH (SMD Inductor, 2-Leads, Body 4.8x4.8x3.0 mm)
pins: 1, 2

## 744043220
designator L?
SMD Shielded Tiny Power Inductor WE-TPC, L = 22.0 µH; PartNumber: 744043220; Inductance: 22.0 µH; DatasheetVersion: ver 6, Aug-2010; PackageReference: WE-TPC-4828-MH; PackageDescription: SMD Inductor, 2-Leads, Body 4.8 x 4.8 mm; ComponentLink1Description: Manufacturer URL; ComponentLink1URL: http://www.we-online.com; ComponentLink2Description: Datasheet; ComponentLink2URL: http://www.we-online.de/katalog/media/pdf/744043220.pdf
footprint WE-TPC-4828-MH (SMD Inductor, 2-Leads, Body 4.8x4.8x3.0 mm)
pins: 1, 2

## 744043221
designator L?
SMD Shielded Tiny Power Inductor WE-TPC, L = 220 µH; PartNumber: 744043221; Inductance: 220 µH; DatasheetVersion: ver 6, Aug-2010; PackageReference: WE-TPC-4828-MH; PackageDescription: SMD Inductor, 2-Leads, Body 4.8 x 4.8 mm; ComponentLink1Description: Manufacturer URL; ComponentLink1URL: http://www.we-online.com; ComponentLink2Description: Datasheet; ComponentLink2URL: http://www.we-online.de/katalog/media/pdf/744043221.pdf
footprint WE-TPC-4828-MH (SMD Inductor, 2-Leads, Body 4.8x4.8x3.0 mm)
pins: 1, 2

## 744043270
designator L?
SMD Shielded Tiny Power Inductor WE-TPC, L=27.0 µH; PartNumber: 744043270; Inductance: 27.0 µH; PackageReference: WE-TPC-4828-MH; PackageDescription: SMD Inductor, 2-Leads, Body 4.8 x 4.8 mm; ComponentLink1Description: Manufacturer URL; ComponentLink1URL: http://www.we-online.com; ComponentLink2Description: Datasheet; ComponentLink2URL: http://katalog.we-online.de/pbs/datasheet/744043270.pdf
footprint WE-TPC-4828-MH (SMD Inductor, 2-Leads, Body 4.8x4.8x3.0 mm)
pins: 1, 2

## 744043330
designator L?
SMD Shielded Tiny Power Inductor WE-TPC, L = 33.0 µH; PartNumber: 744043330; Inductance: 33.0 µH; DatasheetVersion: ver 6, Aug-2010; PackageReference: WE-TPC-4828-MH; PackageDescription: SMD Inductor, 2-Leads, Body 4.8 x 4.8 mm; ComponentLink1Description: Manufacturer URL; ComponentLink1URL: http://www.we-online.com; ComponentLink2Description: Datasheet; ComponentLink2URL: http://www.we-online.de/katalog/media/pdf/744043330.pdf
footprint WE-TPC-4828-MH (SMD Inductor, 2-Leads, Body 4.8x4.8x3.0 mm)
pins: 1, 2

## 744043331
designator L?
SMD Shielded Tiny Power Inductor WE-TPC, L=330 µH; PartNumber: 744043331; Inductance: 330 µH; PackageReference: WE-TPC-4828-MH; PackageDescription: SMD Inductor, 2-Leads, Body 4.8 x 4.8 mm; ComponentLink1Description: Manufacturer URL; ComponentLink1URL: http://www.we-online.com; ComponentLink2Description: Datasheet; ComponentLink2URL: http://katalog.we-online.de/pbs/datasheet/744043331.pdf
footprint WE-TPC-4828-MH (SMD Inductor, 2-Leads, Body 4.8x4.8x3.0 mm)
pins: 1, 2

## 744043390
designator L?
SMD Shielded Tiny Power Inductor WE-TPC, L=39.0 µH; PartNumber: 744043390; Inductance: 39.0 µH; PackageReference: WE-TPC-4828-MH; PackageDescription: SMD Inductor, 2-Leads, Body 4.8 x 4.8 mm; ComponentLink1Description: Manufacturer URL; ComponentLink1URL: http://www.we-online.com; ComponentLink2Description: Datasheet; ComponentLink2URL: http://katalog.we-online.de/pbs/datasheet/744043390.pdf
footprint WE-TPC-4828-MH (SMD Inductor, 2-Leads, Body 4.8x4.8x3.0 mm)
pins: 1, 2

## 744043470
designator L?
SMD Shielded Tiny Power Inductor WE-TPC, L = 47.0 µH; PartNumber: 744043470; Inductance: 47.0 µH; DatasheetVersion: ver 6, Aug-2010; PackageReference: WE-TPC-4828-MH; PackageDescription: SMD Inductor, 2-Leads, Body 4.8 x 4.8 mm; ComponentLink1Description: Manufacturer URL; ComponentLink1URL: http://www.we-online.com; ComponentLink2Description: Datasheet; ComponentLink2URL: http://www.we-online.de/katalog/media/pdf/744043470.pdf
footprint WE-TPC-4828-MH (SMD Inductor, 2-Leads, Body 4.8x4.8x3.0 mm)
pins: 1, 2

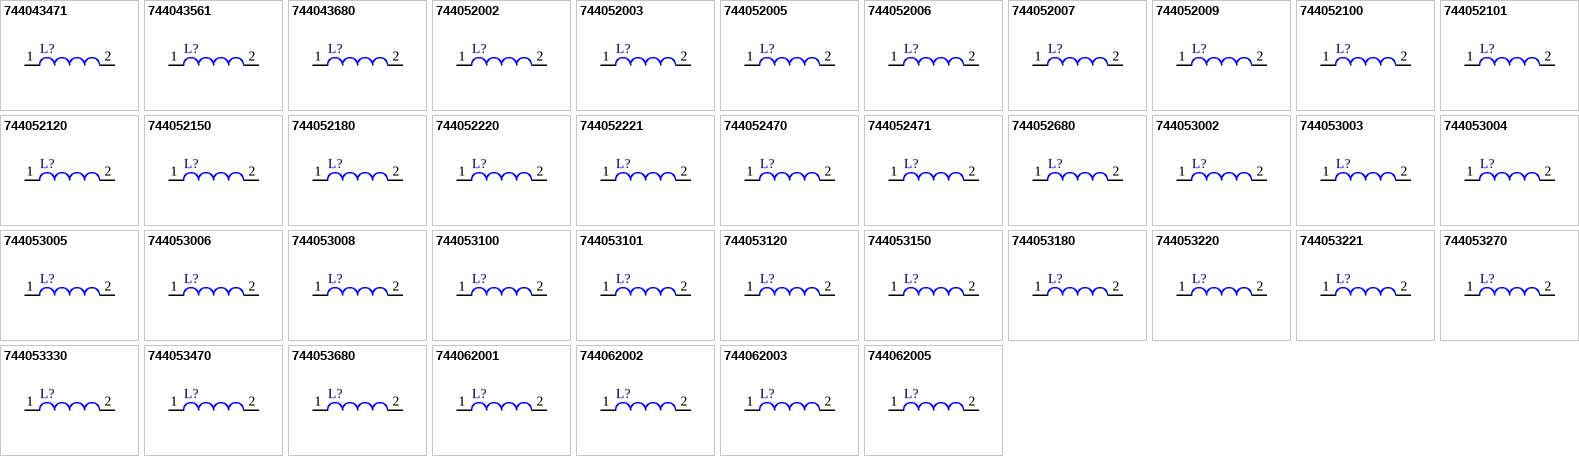
[diagram p2: symbols 744043471 to 744062005]

## 744043471
designator L?
SMD Shielded Tiny Power Inductor WE-TPC, L = 470 µH; PartNumber: 744043471; Inductance: 470 µH; DatasheetVersion: ver 6, Aug-2010; PackageReference: WE-TPC-4828-MH; PackageDescription: SMD Inductor, 2-Leads, Body 4.8 x 4.8 mm; ComponentLink1Description: Manufacturer URL; ComponentLink1URL: http://www.we-online.com; ComponentLink2Description: Datasheet; ComponentLink2URL: http://www.we-online.de/katalog/media/pdf/744043471.pdf
footprint WE-TPC-4828-MH (SMD Inductor, 2-Leads, Body 4.8x4.8x3.0 mm)
pins: 1, 2

## 744043561
designator L?
SMD Shielded Tiny Power Inductor WE-TPC, L=560 µH; PartNumber: 744043561; Inductance: 560 µH; PackageReference: WE-TPC-4828-MH; PackageDescription: SMD Inductor, 2-Leads, Body 4.8 x 4.8 mm; ComponentLink1Description: Manufacturer URL; ComponentLink1URL: http://www.we-online.com; ComponentLink2Description: Datasheet; ComponentLink2URL: http://katalog.we-online.de/pbs/datasheet/744043561.pdf
footprint WE-TPC-4828-MH (SMD Inductor, 2-Leads, Body 4.8x4.8x3.0 mm)
pins: 1, 2

## 744043680
designator L?
SMD Shielded Tiny Power Inductor WE-TPC, L = 68.0 µH; PartNumber: 744043680; Inductance: 68.0 µH; DatasheetVersion: ver 6, Aug-2010; PackageReference: WE-TPC-4828-MH; PackageDescription: SMD Inductor, 2-Leads, Body 4.8 x 4.8 mm; ComponentLink1Description: Manufacturer URL; ComponentLink1URL: http://www.we-online.com; ComponentLink2Description: Datasheet; ComponentLink2URL: http://www.we-online.de/katalog/media/pdf/744043680.pdf
footprint WE-TPC-4828-MH (SMD Inductor, 2-Leads, Body 4.8x4.8x3.0 mm)
pins: 1, 2

## 744052002
designator L?
SMD Shielded Tiny Power Inductor WE-TPC, L = 2.50 µH; PartNumber: 744052002; Inductance: 2.50 µH; DatasheetVersion: ver 7, Aug-2010; PackageReference: WE-TPC-5818-L; PackageDescription: SMD Inductor, 2-Leads, Body 5.8 x 5.8 mm; ComponentLink1Description: Manufacturer URL; ComponentLink1URL: http://www.we-online.com; ComponentLink2Description: Datasheet; ComponentLink2URL: http://www.we-online.de/katalog/media/pdf/744052002.pdf
footprint WE-TPC-5818-L (SMD Inductor, 2-Leads, Body 5.8x5.8x2.0 mm)
pins: 1, 2

## 744052003
designator L?
SMD Shielded Tiny Power Inductor WE-TPC, L = 3.00 µH; PartNumber: 744052003; Inductance: 3.00 µH; DatasheetVersion: ver 7, Aug-2010; PackageReference: WE-TPC-5818-L; PackageDescription: SMD Inductor, 2-Leads, Body 5.8 x 5.8 mm; ComponentLink1Description: Manufacturer URL; ComponentLink1URL: http://www.we-online.com; ComponentLink2Description: Datasheet; ComponentLink2URL: http://www.we-online.de/katalog/media/pdf/744052003.pdf
footprint WE-TPC-5818-L (SMD Inductor, 2-Leads, Body 5.8x5.8x2.0 mm)
pins: 1, 2

## 744052005
designator L?
SMD Shielded Tiny Power Inductor WE-TPC, L = 5.00 µH; PartNumber: 744052005; Inductance: 5.00 µH; DatasheetVersion: ver 7, Aug-2010; PackageReference: WE-TPC-5818-L; PackageDescription: SMD Inductor, 2-Leads, Body 5.8 x 5.8 mm; ComponentLink1Description: Manufacturer URL; ComponentLink1URL: http://www.we-online.com; ComponentLink2Description: Datasheet; ComponentLink2URL: http://www.we-online.de/katalog/media/pdf/744052005.pdf
footprint WE-TPC-5818-L (SMD Inductor, 2-Leads, Body 5.8x5.8x2.0 mm)
pins: 1, 2

## 744052006
designator L?
SMD Shielded Tiny Power Inductor WE-TPC, L = 6.20 µH; PartNumber: 744052006; Inductance: 6.20 µH; DatasheetVersion: ver 7, Aug-2010; PackageReference: WE-TPC-5818-L; PackageDescription: SMD Inductor, 2-Leads, Body 5.8 x 5.8 mm; ComponentLink1Description: Manufacturer URL; ComponentLink1URL: http://www.we-online.com; ComponentLink2Description: Datasheet; ComponentLink2URL: http://www.we-online.de/katalog/media/pdf/744052006.pdf
footprint WE-TPC-5818-L (SMD Inductor, 2-Leads, Body 5.8x5.8x2.0 mm)
pins: 1, 2

## 744052007
designator L?
SMD Shielded Tiny Power Inductor WE-TPC, L = 7.50 µH; PartNumber: 744052007; Inductance: 7.50 µH; DatasheetVersion: ver 7, Aug-2010; PackageReference: WE-TPC-5818-L; PackageDescription: SMD Inductor, 2-Leads, Body 5.8 x 5.8 mm; ComponentLink1Description: Manufacturer URL; ComponentLink1URL: http://www.we-online.com; ComponentLink2Description: Datasheet; ComponentLink2URL: http://www.we-online.de/katalog/media/pdf/744052007.pdf
footprint WE-TPC-5818-L (SMD Inductor, 2-Leads, Body 5.8x5.8x2.0 mm)
pins: 1, 2

## 744052009
designator L?
SMD Shielded Tiny Power Inductor WE-TPC, L = 9.00 µH; PartNumber: 744052009; Inductance: 9.00 µH; DatasheetVersion: ver 7, Aug-2010; PackageReference: WE-TPC-5818-L; PackageDescription: SMD Inductor, 2-Leads, Body 5.8 x 5.8 mm; ComponentLink1Description: Manufacturer URL; ComponentLink1URL: http://www.we-online.com; ComponentLink2Description: Datasheet; ComponentLink2URL: http://www.we-online.de/katalog/media/pdf/744052009.pdf
footprint WE-TPC-5818-L (SMD Inductor, 2-Leads, Body 5.8x5.8x2.0 mm)
pins: 1, 2

## 744052100
designator L?
SMD Shielded Tiny Power Inductor WE-TPC, L = 10.0 µH; PartNumber: 744052100; Inductance: 10.0 µH; DatasheetVersion: ver 7, Aug-2010; PackageReference: WE-TPC-5818-L; PackageDescription: SMD Inductor, 2-Leads, Body 5.8 x 5.8 mm; ComponentLink1Description: Manufacturer URL; ComponentLink1URL: http://www.we-online.com; ComponentLink2Description: Datasheet; ComponentLink2URL: http://www.we-online.de/katalog/media/pdf/744052100.pdf
footprint WE-TPC-5818-L (SMD Inductor, 2-Leads, Body 5.8x5.8x2.0 mm)
pins: 1, 2

## 744052101
designator L?
SMD Shielded Tiny Power Inductor WE-TPC, L=100 µH; PartNumber: 744052101; Inductance: 100 µH; PackageReference: WE-TPC-5818-L; PackageDescription: SMD Inductor, 2-Leads, Body 5.8 x 5.8 mm; ComponentLink1Description: Manufacturer URL; ComponentLink1URL: http://www.we-online.com; ComponentLink2Description: Datasheet; ComponentLink2URL: http://www.we-online.de/katalog/media/pdf/744052101.pdf
footprint WE-TPC-5818-L (SMD Inductor, 2-Leads, Body 5.8x5.8x2.0 mm)
pins: 1, 2

## 744052120
designator L?
SMD Shielded Tiny Power Inductor WE-TPC, L = 12.0 µH; PartNumber: 744052120; Inductance: 12.0 µH; DatasheetVersion: ver 7, Aug-2010; PackageReference: WE-TPC-5818-L; PackageDescription: SMD Inductor, 2-Leads, Body 5.8 x 5.8 mm; ComponentLink1Description: Manufacturer URL; ComponentLink1URL: http://www.we-online.com; ComponentLink2Description: Datasheet; ComponentLink2URL: http://www.we-online.de/katalog/media/pdf/744052120.pdf
footprint WE-TPC-5818-L (SMD Inductor, 2-Leads, Body 5.8x5.8x2.0 mm)
pins: 1, 2

## 744052150
designator L?
SMD Shielded Tiny Power Inductor WE-TPC, L = 15.0 µH; PartNumber: 744052150; Inductance: 15.0 µH; DatasheetVersion: ver 7, Aug-2010; PackageReference: WE-TPC-5818-L; PackageDescription: SMD Inductor, 2-Leads, Body 5.8 x 5.8 mm; ComponentLink1Description: Manufacturer URL; ComponentLink1URL: http://www.we-online.com; ComponentLink2Description: Datasheet; ComponentLink2URL: http://www.we-online.de/katalog/media/pdf/744052150.pdf
footprint WE-TPC-5818-L (SMD Inductor, 2-Leads, Body 5.8x5.8x2.0 mm)
pins: 1, 2

## 744052180
designator L?
SMD Shielded Tiny Power Inductor WE-TPC, L = 18.0 µH; PartNumber: 744052180; Inductance: 18.0 µH; DatasheetVersion: ver 7, Aug-2010; PackageReference: WE-TPC-5818-L; PackageDescription: SMD Inductor, 2-Leads, Body 5.8 x 5.8 mm; ComponentLink1Description: Manufacturer URL; ComponentLink1URL: http://www.we-online.com; ComponentLink2Description: Datasheet; ComponentLink2URL: http://www.we-online.de/katalog/media/pdf/744052180.pdf
footprint WE-TPC-5818-L (SMD Inductor, 2-Leads, Body 5.8x5.8x2.0 mm)
pins: 1, 2

## 744052220
designator L?
SMD Shielded Tiny Power Inductor WE-TPC, L = 22.0 µH; PartNumber: 744052220; Inductance: 22.0 µH; DatasheetVersion: ver 7, Aug-2010; PackageReference: WE-TPC-5818-L; PackageDescription: SMD Inductor, 2-Leads, Body 5.8 x 5.8 mm; ComponentLink1Description: Manufacturer URL; ComponentLink1URL: http://www.we-online.com; ComponentLink2Description: Datasheet; ComponentLink2URL: http://www.we-online.de/katalog/media/pdf/744052220.pdf
footprint WE-TPC-5818-L (SMD Inductor, 2-Leads, Body 5.8x5.8x2.0 mm)
pins: 1, 2

## 744052221
designator L?
SMD Shielded Tiny Power Inductor WE-TPC, L = 220 µH; PartNumber: 744052221; Inductance: 220 µH; DatasheetVersion: ver 7, Aug-2010; PackageReference: WE-TPC-5818-L; PackageDescription: SMD Inductor, 2-Leads, Body 5.8 x 5.8 mm; ComponentLink1Description: Manufacturer URL; ComponentLink1URL: http://www.we-online.com; ComponentLink2Description: Datasheet; ComponentLink2URL: http://www.we-online.de/katalog/media/pdf/744052221.pdf
footprint WE-TPC-5818-L (SMD Inductor, 2-Leads, Body 5.8x5.8x2.0 mm)
pins: 1, 2

## 744052470
designator L?
SMD Shielded Tiny Power Inductor WE-TPC, L = 47.0 µH; PartNumber: 744052470; Inductance: 47.0 µH; DatasheetVersion: ver 7, Aug-2010; PackageReference: WE-TPC-5818-L; PackageDescription: SMD Inductor, 2-Leads, Body 5.8 x 5.8 mm; ComponentLink1Description: Manufacturer URL; ComponentLink1URL: http://www.we-online.com; ComponentLink2Description: Datasheet; ComponentLink2URL: http://www.we-online.de/katalog/media/pdf/744052470.pdf
footprint WE-TPC-5818-L (SMD Inductor, 2-Leads, Body 5.8x5.8x2.0 mm)
pins: 1, 2

## 744052471
designator L?
SMD Shielded Tiny Power Inductor WE-TPC, L = 470 µH; PartNumber: 744052471; Inductance: 470 µH; DatasheetVersion: ver 7, Aug-2010; PackageReference: WE-TPC-5818-L; PackageDescription: SMD Inductor, 2-Leads, Body 5.8 x 5.8 mm; ComponentLink1Description: Manufacturer URL; ComponentLink1URL: http://www.we-online.com; ComponentLink2Description: Datasheet; ComponentLink2URL: http://www.we-online.de/katalog/media/pdf/744052471.pdf
footprint WE-TPC-5818-L (SMD Inductor, 2-Leads, Body 5.8x5.8x2.0 mm)
pins: 1, 2

## 744052680
designator L?
SMD Shielded Tiny Power Inductor WE-TPC, L = 68.0 µH; PartNumber: 744052680; Inductance: 68.0 µH; DatasheetVersion: ver 7, Aug-2010; PackageReference: WE-TPC-5818-L; PackageDescription: SMD Inductor, 2-Leads, Body 5.8 x 5.8 mm; ComponentLink1Description: Manufacturer URL; ComponentLink1URL: http://www.we-online.com; ComponentLink2Description: Datasheet; ComponentLink2URL: http://www.we-online.de/katalog/media/pdf/744052680.pdf
footprint WE-TPC-5818-L (SMD Inductor, 2-Leads, Body 5.8x5.8x2.0 mm)
pins: 1, 2